# Altium footprint library Rez-Axial Pot.PcbLib: 6 footprints
Each footprint in its own frame and in the unit in brackets; x right, y up, seen from the top. Pads: shape width x height; smd on the part's side, far side on the other; paste and mask are expansions set on the pad; w line width, h text height; cw(c..) or ccw(c..) is an arc to the next point about the centre after c.
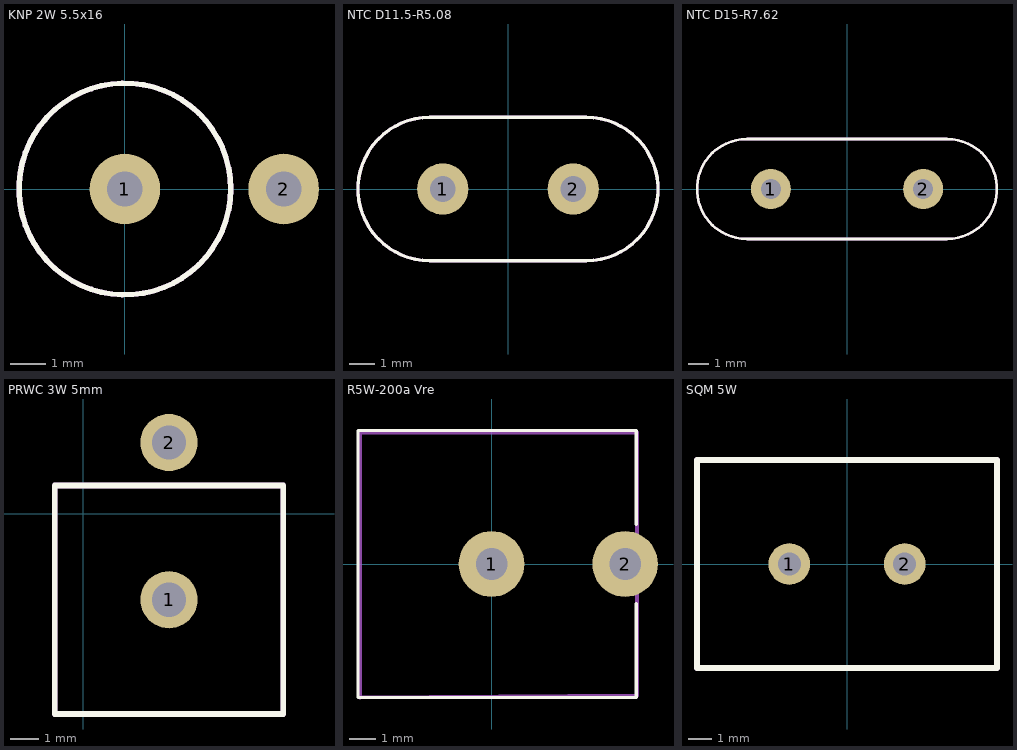
[diagram p0: the footprints below, top view; thin cyan lines are the x and y axes]

## KNP 2W 5.5x16 [mm]
pads (2):
  round 2 hole 1 unplated: 1(0,0) 2(4.5,0)
TopOverlay:
  circle w0.15: c0,0 r3
Mechanical13:
  circle w0.15: c0,0 r3
3D body "Res-(3W)MO-150 Ver.STEP": height 18.31, standoff -2.03, extent -2.302,-2.302 4.21,2.302

## NTC D11.5-R5.08 [mm]
pads (2):
  round 2 hole 1: 1(-2.54,0) 2(2.54,0)
TopOverlay:
  lines w0.127: 3.023,-2.794 -3.048,-2.794 cw(c-3.048,0) -3.048,2.794 3.048,2.794 cw(c3.048,0) 3.048,-2.794
Mechanical13:
  lines w0.127: 3.023,-2.794 -3.048,-2.794 cw(c-3.048,0) -3.048,2.794 3.048,2.794 cw(c3.048,0) 3.048,-2.794
3D body "NTC-B57236.STEP": height 15.75, standoff -3.62, extent -5.75,-2.8 5.75,2.8

## NTC D15-R7.62 [mm]
pads (2):
  round 2 hole 1: 1(-3.81,0) 2(3.81,0)
TopOverlay:
  lines w0.127: -5,-2.5 cw(c-5,0) -5,2.5 5,2.5 cw(c5,0) 5,-2.5 -5,-2.5
Mechanical13:
  lines w0.127: -5,-2.5 cw(c-5,0) -5,2.5 5,2.5 cw(c5,0) 5,-2.5 -5,-2.5
3D body "NTC-B57237-7.62mm.STEP": height 22.5, standoff -2.5, extent -7.5,-2.5 7.5,2.5

## PRWC 3W 5mm [mm]
height 20
pads (2):
  round 2 hole 1.2 paste-25.4: 1(3,-3) 2(3,2.5)
TopOverlay:
  lines w0.2: -1,-7 -1,1 7,1 7,-7 -1,-7
Mechanical13:
  lines w0.2: -1,-7 -1,1 7,1 ; -1,-7 -1,-7 ; -1,-7 7,-7 ; 7,-7 7,-7 ; 7,-7 7,1 ; 7,1 7,1
3D body: height 21, standoff 1, extent -1,-7 7,1

## R5W-200a Vre [mm]
pads (2):
  round 2.5 hole 1.2: 1(0,0) 2(5.08,0)
TopOverlay:
  lines w0.127: 5.5,-1.5 5.5,-5.08 -5.08,-5.08 -5.08,5.08 5.5,5.08 5.5,1.5
Mechanical13:
  circle w0.15: c0,0 r0.15
  circle w0.15: c5,0 r0.15
  lines w0.15: 5,0 5.53,0 ; -5.01,5 -5,-5.08 5.53,-5 5.53,5 -5.01,5
3D body "Res-(5W) 200Ver.STEP": height 1.4, standoff -24.05, extent -5.01,-5 5.53,5

## SQM 5W [mm]
pads (2):
  round 1.8 hole 1: 1(-2.5,0) 2(2.5,0)
TopOverlay:
  lines w0.254: -6.5,-4.5 6.5,-4.5 6.5,4.5 -6.5,4.5 -6.5,-4.5
Mechanical13:
  lines w0.254: -6.5,-4.5 6.5,-4.5 6.5,4.5 -6.5,4.5 -6.5,-4.5
3D body "User Library-Cement Power Resistor SQM-05 5W 15K.step": height 25, standoff -5, extent -6.25,-4.4 6.25,4.6